# Altium footprint library 电磁.PcbLib: 1 footprints
Each footprint in its own frame and in the unit in brackets; x right, y up, seen from the top. Pads: shape width x height; smd on the part's side, far side on the other; paste and mask are expansions set on the pad; w line width, h text height; cw(c..) or ccw(c..) is an arc to the next point about the centre after c.
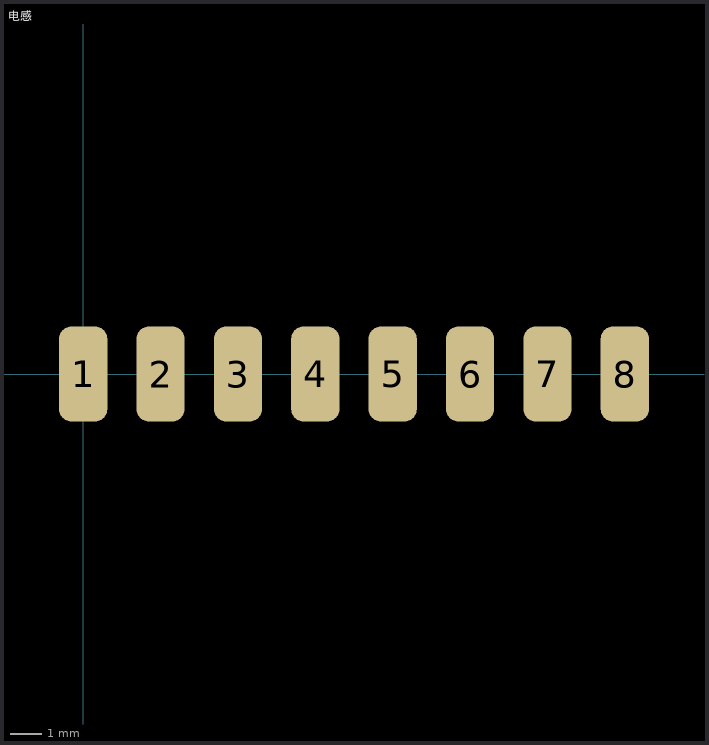
[diagram p0: the footprint, top view; thin cyan lines are the x and y axes]

## 电感 [mil]
pads (9):
  rrect50% 60x118.11 smd: 1(0,0) 1(0,0) 2(96.43,0) 3(192.86,0) 4(289.29,0) 5(385.71,0) 6(482.14,0) 7(578.57,0) 8(675,0)